# Altium footprint library LM1117_3.3V.PcbLib: 1 footprints
Each footprint in its own frame and in the unit in brackets; x right, y up, seen from the top. Pads: shape width x height; smd on the part's side, far side on the other; paste and mask are expansions set on the pad; w line width, h text height; cw(c..) or ccw(c..) is an arc to the next point about the centre after c.
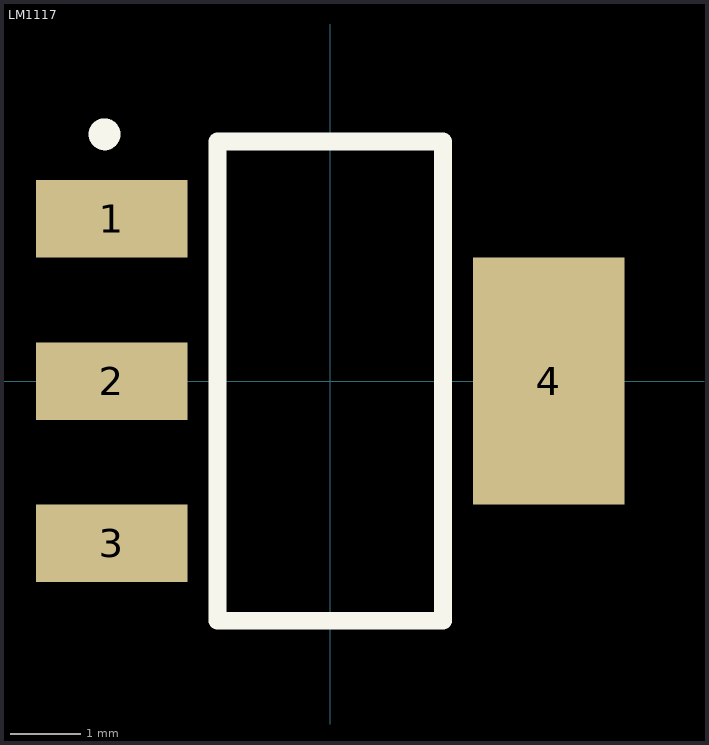
[diagram p0: the footprint, top view; thin cyan lines are the x and y axes]

## LM1117 [mm] "5Vת3.3V"
pads (4):
  rect 2.15x1.1 smd: 1(-3.1,2.3) 2(-3.1,0) 3(-3.1,-2.3)
  rect 2.15x3.5 smd: 4(3.1,0)
Top Overlay:
  circle w0.254: c-3.2,3.5 r0.1
  lines w0.254: -1.6,-3.4 1.6,-3.4 1.6,3.4 -1.6,3.4 -1.6,-3.4